# EAGLE library part ADXL345BCCZ (library SamacSys_Parts)
ADXL345BCCZ, Accelerometer 3-Axis, 0.1 3200 Hz 2 3.6 V, 14-Pin LGA Source: Datasheet <http://componentsearchengine.com/Datasheets/1/ADXL345BCCZ.pdf>
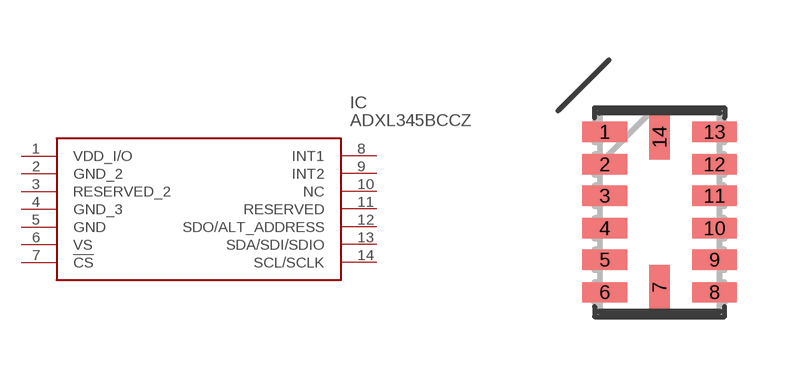
[diagram p0: symbol with the pads of LGA14R80P3X6_300X500X100; footprint LGA14R80P3X6_300X500X100]

Designator prefix IC

## ADXL345BCCZ (DESCRIPTION: ADXL345BCCZ, Accelerometer 3-Axis, 0.1 3200 Hz 2 3.6 V, 14-Pin LGA; HEIGHT: mm; MANUFACTURER_NAME: Analog Devices; MANUFACTURER_PART_NUMBER: ADXL345BCCZ; MOUSER_PART_NUMBER: 584-ADXL345BCCZ; MOUSER_PRICE-STOCK: https://www.mouser.com/Search/Refine.aspx?Keyword=584-ADXL345BCCZ; RS_PART_NUMBER: 7098439P; RS_PRICE-STOCK: http://uk.rs-online.com/web/p/products/7098439P)  [LGA14R80P3X6_300X500X100]
1  VDD_I/O
2  GND_2
3  RESERVED_2
4  GND_3
5  GND
6  VS
7  !CS
8  INT1
9  INT2
10  NC  nc
11  RESERVED
12  SDO/ALT_ADDRESS
13  SDA/SDI/SDIO
14  SCL/SCLK

## Footprint LGA14R80P3X6_300X500X100 (pad centres in mm)
LGA14R80P3X6_300X500X100
smd 1.118 x 0.508: 1 -1.372,2.007; 2 -1.372,1.194; 3 -1.372,0.406; 4 -1.372,-0.406; 5 -1.372,-1.194; 6 -1.372,-2.007; 8 1.372,-2.007; 9 1.372,-1.194; 10 1.372,-0.406; 11 1.372,0.406; 12 1.372,1.194; 13 1.372,2.007
smd 0.508 x 1.118: 7 0,-1.88; 14 0,1.88